# Altium schematic symbol library K572ПB4.SchLib: 1 symbol
Pins are listed as number, name and electrical type; pins without a type are passive.

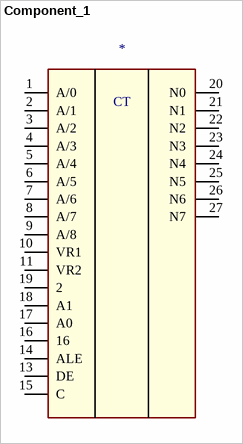
[diagram p0: symbol Component_1]

## Component_1
designator CT
footprint К572ПВ4
pins: 1 A/0, 2 A/1, 3 A/2, 4 A/3, 5 A/4, 6 A/5, 7 A/6, 8 A/7, 9 A/8, 10 VR1, 11 VR2, 13 DE, 14 ALE, 15 C, 16, 17 A0, 18 A1, 19 2, 20 N0, 21 N1, 22 N2, 23 N3, 24 N4, 25 N5, 26 N6, 27 N7